# Altium schematic symbol library LQH2HPN150MJRL.SchLib: 2 symbols
Pins are listed as number, name and electrical type; pins without a type are passive.

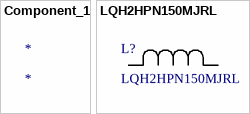
[diagram p0: symbols Component_1 to LQH2HPN150MJRL]

## Component_1
designator *

## LQH2HPN150MJRL
designator L?
No Description Available; Mfr_Name: Murata; Type: DEV; Copyright: Copyright (C) 2022 Ultra Librarian. All rights reserved.; Manufacturer_Part_Number: LQH2HPN150MJRL; Digi-Key_Part_Number_1: 490-9897-2-ND; Digi-Key_Part_Number_2: 490-9897-1-ND; Digi-Key_Part_Number_3: 490-9897-6-ND; RefDes: RefDes
footprint IND_LQH2H_MUR
pins: 1, 2